# Altium schematic symbol library USB_connectors.SchLib: 2 symbols
Pins are listed as number, name and electrical type; pins without a type are passive.

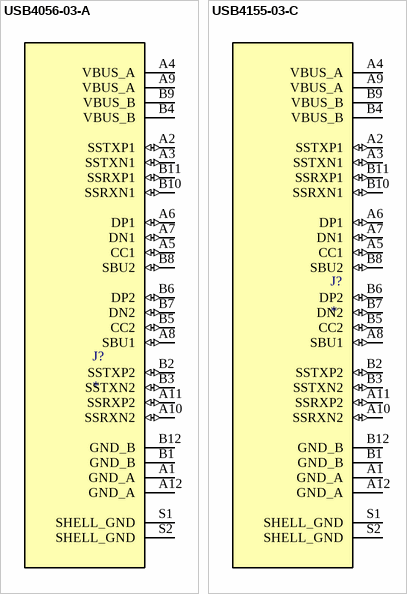
[diagram p0: symbols USB4056-03-A to USB4155-03-C]

## USB4056-03-A
designator J?
USB-C (USB TYPE-C) USB 3.2 Gen 2 (USB 3.1 Gen 2, Superspeed + (USB 3.1)) Receptacle Connector 24 Position Surface Mount, Right Angle; Through Hole
footprint usb4056-03-a
pins: A1 GND_A (power), A2 SSTXP1 (io), A3 SSTXN1 (io), A4 VBUS_A (power), A5 CC1 (io), A6 DP1 (io), A7 DN1 (io), A8 SBU1 (io), A9 VBUS_A (power), A10 SSRXN2 (io), A11 SSRXP2 (io), A12 GND_A (power), B1 GND_B (power), B2 SSTXP2 (io), B3 SSTXN2 (io), B4 VBUS_B (power), B5 CC2 (io), B6 DP2 (io), B7 DN2 (io), B8 SBU2 (io), B9 VBUS_B (power), B10 SSRXN1 (io), B11 SSRXP1 (io), B12 GND_B (power), S1 SHELL_GND (power), S2 SHELL_GND (power)

## USB4155-03-C
designator J?
USB-C (USB TYPE-C) USB 3.2 Gen 2 (USB 3.1 Gen 2, Superspeed + (USB 3.1)) Receptacle Connector 24 Position Surface Mount, Right Angle; Through Hole
footprint USB4155-03-C (USB-C (USB TYPE-C) USB 3.2 Gen 2 (USB 3.1 Gen 2, Superspeed + (USB 3.1)) Plug Connector 24 Position Board Edge, Cutout; Surface Mount; Through Hole, Right Angle)
pins: A1 GND_A (power), A2 SSTXP1 (io), A3 SSTXN1 (io), A4 VBUS_A (power), A5 CC1 (io), A6 DP1 (io), A7 DN1 (io), A8 SBU1 (io), A9 VBUS_A (power), A10 SSRXN2 (io), A11 SSRXP2 (io), A12 GND_A (power), B1 GND_B (power), B2 SSTXP2 (io), B3 SSTXN2 (io), B4 VBUS_B (power), B5 CC2 (io), B6 DP2 (io), B7 DN2 (io), B8 SBU2 (io), B9 VBUS_B (power), B10 SSRXN1 (io), B11 SSRXP1 (io), B12 GND_B (power), S1 SHELL_GND (power), S2 SHELL_GND (power)